# Altium integrated library Wurth_Elektronik_Passive_rev16a.IntLib: 1143 symbols (part 1 of 28)
Pins are listed as number, name and electrical type; pins without a type are passive.

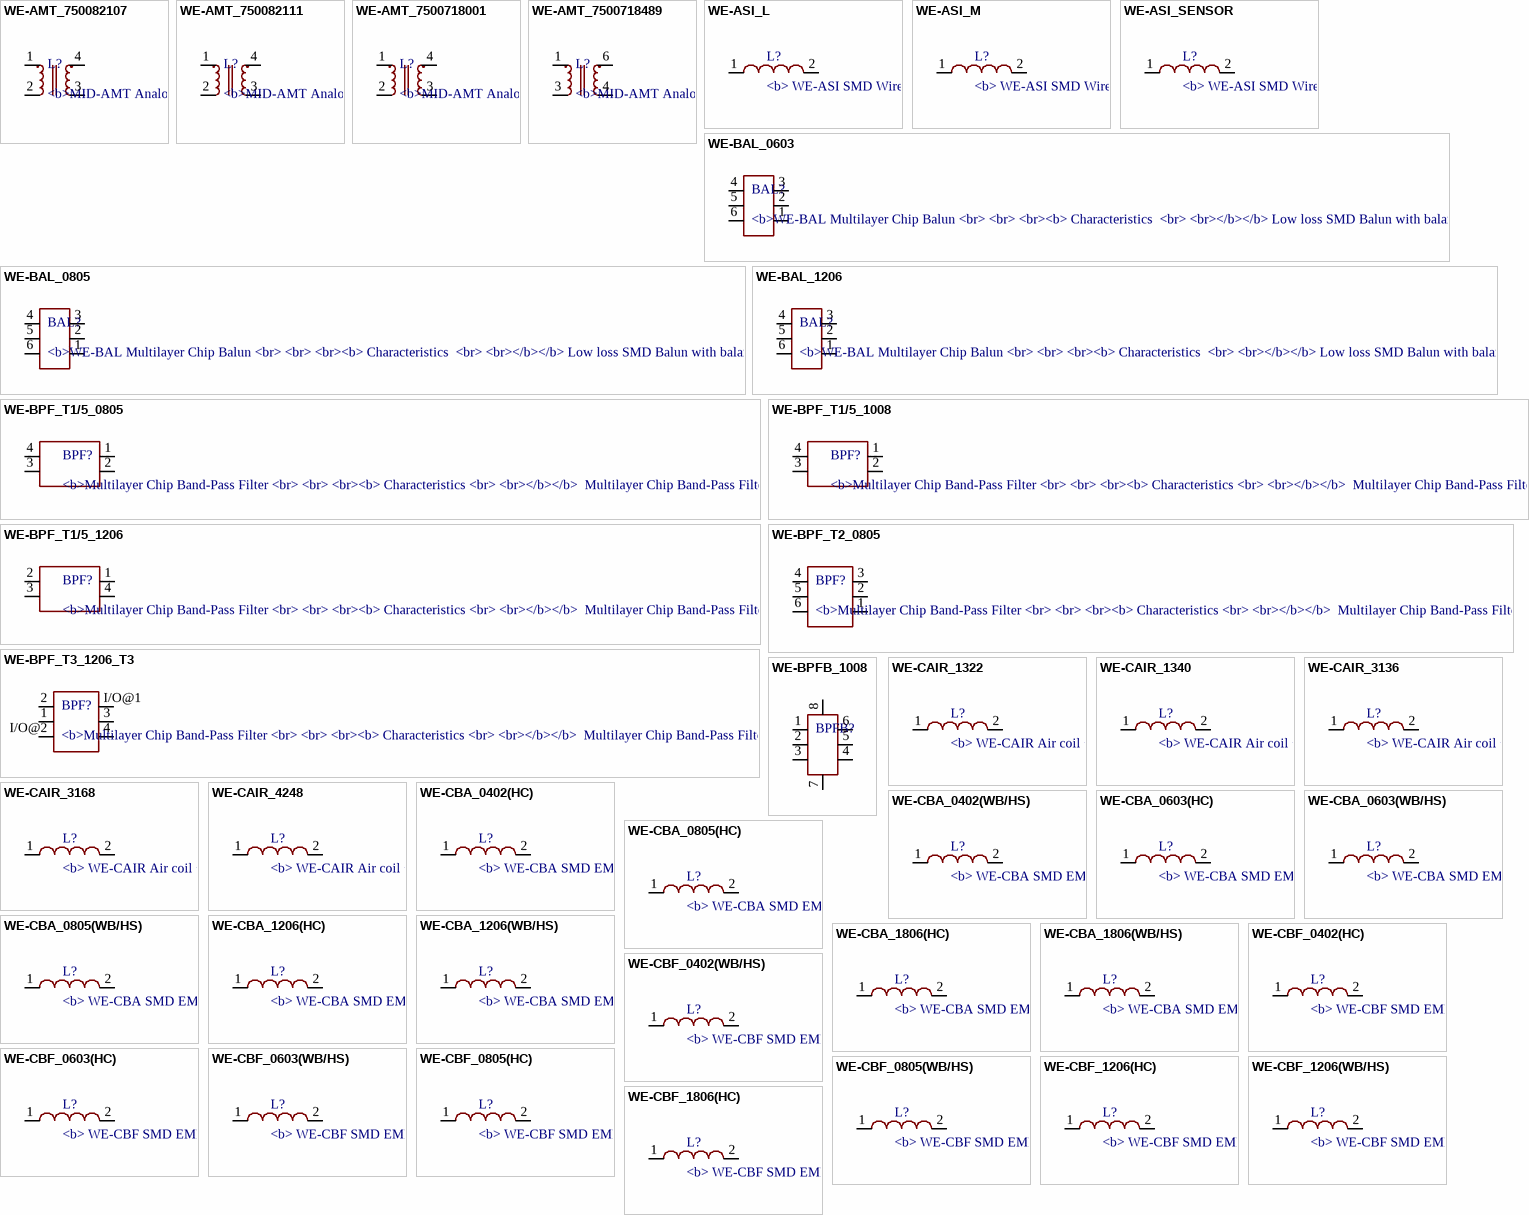
[diagram p0: symbols WE-AMT_750082107 to WE-CBF_1806(HC)]

## WE-AMT_750082107
designator L?, comment <b>MID-AMT Analog Modem Transformer</b><p> / <br><b> Characteristics / <br></b> UL/IEC/EN 60950 compatible / <br> V.29-UL1950 / <br> / <br><b> Applications / <br></b> Analog Modems / <br> / <br> / <br><a href="http://katalog.we-online.de/media/images/ctm/mid-amt_pf2.jpg" title="Enlarge picture"> / <img src="http://katalog.we-online.de/media/thumbs2/ctm/thb_mid-amt_pf2.jpg" width="320"></a><p> / Details see: <a href="http://katalog.we-online.de/en/ctm/MID-AMT/?m">http://katalog.we-online.de/en/ctm/MID-AMT/?m</a><p> / Updated on 2014-06-19<br> / 2014 (C) Wurth Elektronik
footprint WE-AMT_750082107
pins: 1, 2 4, 3, 4 2

## WE-AMT_750082111
designator L?, comment <b>MID-AMT Analog Modem Transformer</b><p> / <br><b> Characteristics / <br></b> UL/IEC/EN 60950 compatible / <br> V.29-UL1950 / <br> / <br><b> Applications / <br></b> Analog Modems / <br> / <br> / <br><a href="http://katalog.we-online.de/media/images/ctm/mid-amt_pf2.jpg" title="Enlarge picture"> / <img src="http://katalog.we-online.de/media/thumbs2/ctm/thb_mid-amt_pf2.jpg" width="320"></a><p> / Details see: <a href="http://katalog.we-online.de/en/ctm/MID-AMT/?m">http://katalog.we-online.de/en/ctm/MID-AMT/?m</a><p> / Updated on 2014-06-19<br> / 2014 (C) Wurth Elektronik
footprint WE-AMT_750082111
pins: 1, 2 4, 3, 4 2

## WE-AMT_7500718001
designator L?, comment <b>MID-AMT Analog Modem Transformer</b><p> / <br><b> Characteristics / <br></b> UL/IEC/EN 60950 compatible / <br> V.29-UL1950 / <br> / <br><b> Applications / <br></b> Analog Modems / <br> / <br> / <br><a href="http://katalog.we-online.de/media/images/ctm/mid-amt_pf2.jpg" title="Enlarge picture"> / <img src="http://katalog.we-online.de/media/thumbs2/ctm/thb_mid-amt_pf2.jpg" width="320"></a><p> / Details see: <a href="http://katalog.we-online.de/en/ctm/MID-AMT/?m">http://katalog.we-online.de/en/ctm/MID-AMT/?m</a><p> / Updated on 2014-06-19<br> / 2014 (C) Wurth Elektronik
footprint WE-AMT_7500718001
pins: 1, 2 4, 3, 4 2

## WE-AMT_7500718489
designator L?, comment <b>MID-AMT Analog Modem Transformer</b><p> / <br><b> Characteristics / <br></b> UL/IEC/EN 60950 compatible / <br> V.29-UL1950 / <br> / <br><b> Applications / <br></b> Analog Modems / <br> / <br> / <br><a href="http://katalog.we-online.de/media/images/ctm/mid-amt_pf2.jpg" title="Enlarge picture"> / <img src="http://katalog.we-online.de/media/thumbs2/ctm/thb_mid-amt_pf2.jpg" width="320"></a><p> / Details see: <a href="http://katalog.we-online.de/en/ctm/MID-AMT/?m">http://katalog.we-online.de/en/ctm/MID-AMT/?m</a><p> / Updated on 2014-06-19<br> / 2014 (C) Wurth Elektronik
footprint WE-AMT_7500718489
pins: 1, 3 4, 4 3, 6 2

## WE-ASI_L
designator L?, comment <b> WE-ASI SMD Wire Wound Inductor / <br> / <br><b> Characteristics / <br> / <br></b></b> Specially designed for sensors and actuators / <br> High current and small footprint / <br> High self resonant frequency / <br> Operating temperature: –40 ºC to +125 ºC / <br> / <br> / <br><b> Applications / <br> / <br></b> ASI-applications / <br>Low frequency filter design (kHz range) / <br> / <br> / <br><a href="http://katalog.we-online.de/media/images/eisos/IndASI_pf2.jpg" title="Enlarge picture"> / <img src="http://katalog.we-online.de/media/thumbs2/eisos/thb_IndASI_pf2.jpg" width="320"></a><p> / Details see: <a href="http://katalog.we-online.de/en/pbs/WE-ASI">http://katalog.we-online.de/en/pbs/WE-ASI</a><p> / Updated by  Dan Xu 2014-06-19<br> / 2014 (C) Wurth Elektronik
footprint WE-ASI_L
pins: 1, 2

## WE-ASI_M
designator L?, comment <b> WE-ASI SMD Wire Wound Inductor / <br> / <br><b> Characteristics / <br> / <br></b></b> Specially designed for sensors and actuators / <br> High current and small footprint / <br> High self resonant frequency / <br> Operating temperature: –40 ºC to +125 ºC / <br> / <br> / <br><b> Applications / <br> / <br></b> ASI-applications / <br>Low frequency filter design (kHz range) / <br> / <br> / <br><a href="http://katalog.we-online.de/media/images/eisos/IndASI_pf2.jpg" title="Enlarge picture"> / <img src="http://katalog.we-online.de/media/thumbs2/eisos/thb_IndASI_pf2.jpg" width="320"></a><p> / Details see: <a href="http://katalog.we-online.de/en/pbs/WE-ASI">http://katalog.we-online.de/en/pbs/WE-ASI</a><p> / Updated by  Dan Xu 2014-06-19<br> / 2014 (C) Wurth Elektronik
footprint WE-ASI_M
pins: 1, 2

## WE-ASI_SENSOR
designator L?, comment <b> WE-ASI SMD Wire Wound Inductor / <br> / <br><b> Characteristics / <br> / <br></b></b> Specially designed for sensors and actuators / <br> High current and small footprint / <br> High self resonant frequency / <br> Operating temperature: –40 ºC to +125 ºC / <br> / <br> / <br><b> Applications / <br> / <br></b> ASI-applications / <br>Low frequency filter design (kHz range) / <br> / <br> / <br><a href="http://katalog.we-online.de/media/images/eisos/IndASI_pf2.jpg" title="Enlarge picture"> / <img src="http://katalog.we-online.de/media/thumbs2/eisos/thb_IndASI_pf2.jpg" width="320"></a><p> / Details see: <a href="http://katalog.we-online.de/en/pbs/WE-ASI">http://katalog.we-online.de/en/pbs/WE-ASI</a><p> / Updated by  Dan Xu 2014-06-19<br> / 2014 (C) Wurth Elektronik
footprint WE-ASI_SENSOR
pins: 1, 2

## WE-BAL_0603
designator BAL?, comment <b>WE-BAL Multilayer Chip Balun / <br> / <br> / <br><b> Characteristics / <br> / <br></b></b> Low loss SMD Balun with balanced impedance of 50 to 200 Ω / <br> Operating temperature: –40 °C to +85 °C / <br> Power Capacity: 2 W max. / <br> / <br> / <br><b> Applications / <br></b> RF applications / <br> Wireless communication systems like Home RF, DECT, WLAN, Bluetooth, ZigBee … / <br> / <br> / <br> / <br><a href="http://katalog.we-online.de/media/images/eisos/RfBAL_pf2.jpg" title="Enlarge picture"> / <img src="http://katalog.we-online.de/media/thumbs2/eisos/thb_RfBAL_pf2.jpg" width="320"></a><p> / Details see: <a href="http://katalog.we-online.de/en/pbs/WE-BAL">http://katalog.we-online.de/en/pbs/WE-BAL</a><p> / Updated by  Dan Xu 2014-06-19<br> / 2014 (C) Wurth Elektronik
footprint WE-BAL_0603
pins: 1, 2, 3, 4, 5, 6

## WE-BAL_0805
designator BAL?, comment <b>WE-BAL Multilayer Chip Balun / <br> / <br> / <br><b> Characteristics / <br> / <br></b></b> Low loss SMD Balun with balanced impedance of 50 to 200 Ω / <br> Operating temperature: –40 °C to +85 °C / <br> Power Capacity: 2 W max. / <br> / <br> / <br><b> Applications / <br></b> RF applications / <br> Wireless communication systems like Home RF, DECT, WLAN, Bluetooth, ZigBee … / <br> / <br> / <br> / <br><a href="http://katalog.we-online.de/media/images/eisos/RfBAL_pf2.jpg" title="Enlarge picture"> / <img src="http://katalog.we-online.de/media/thumbs2/eisos/thb_RfBAL_pf2.jpg" width="320"></a><p> / Details see: <a href="http://katalog.we-online.de/en/pbs/WE-BAL">http://katalog.we-online.de/en/pbs/WE-BAL</a><p> / Updated by  Dan Xu 2014-06-19<br> / 2014 (C) Wurth Elektronik
footprint WE-BAL_0805
pins: 1, 2, 3, 4, 5, 6

## WE-BAL_1206
designator BAL?, comment <b>WE-BAL Multilayer Chip Balun / <br> / <br> / <br><b> Characteristics / <br> / <br></b></b> Low loss SMD Balun with balanced impedance of 50 to 200 Ω / <br> Operating temperature: –40 °C to +85 °C / <br> Power Capacity: 2 W max. / <br> / <br> / <br><b> Applications / <br></b> RF applications / <br> Wireless communication systems like Home RF, DECT, WLAN, Bluetooth, ZigBee … / <br> / <br> / <br> / <br><a href="http://katalog.we-online.de/media/images/eisos/RfBAL_pf2.jpg" title="Enlarge picture"> / <img src="http://katalog.we-online.de/media/thumbs2/eisos/thb_RfBAL_pf2.jpg" width="320"></a><p> / Details see: <a href="http://katalog.we-online.de/en/pbs/WE-BAL">http://katalog.we-online.de/en/pbs/WE-BAL</a><p> / Updated by  Dan Xu 2014-06-19<br> / 2014 (C) Wurth Elektronik
footprint WE-BAL_1206
pins: 1, 2, 3, 4, 5, 6

## WE-BPF_T1/5_0805
designator BPF?, comment <b>Multilayer Chip Band-Pass Filter / <br> / <br> / <br><b> Characteristics / <br> / <br></b></b>  Multilayer Chip Band-Pass Filter with low insertion loss and high attenuation / <br> / <br> SMD component in the sizes 0805 and 1008 / <br> / <br> Guaranteed filter characteristics over a wide temperature range / <br> / <br> / <br><b> Applications / <br> / <br></b> RF applications / <br> / <br> Wireless communication systems like DECT, PACS, PHS, GSM, WLAN, Bluetooth … / <br><a href="http://katalog.we-online.de/media/images/eisos/RfBPF_pf2.jpg" title="Enlarge picture"> / <img src="http://katalog.we-online.de/media/thumbs2/eisos/thb_RfBPF_pf2.jpg" width="320"></a><p> / Details see: <a href="http://katalog.we-online.de/en/pbs/WE-BPF">http://katalog.we-online.de/en/pbs/WE-BPF</a><p> / Updated by  Dan Xu 2014-06-19<br> / 2014 (C) Wurth Elektronik
footprint WE-BPF_0805_T1
pins: 1 GND, 2 OUT, 3 GND, 4 IN

## WE-BPF_T1/5_1008
designator BPF?, comment <b>Multilayer Chip Band-Pass Filter / <br> / <br> / <br><b> Characteristics / <br> / <br></b></b>  Multilayer Chip Band-Pass Filter with low insertion loss and high attenuation / <br> / <br> SMD component in the sizes 0805 and 1008 / <br> / <br> Guaranteed filter characteristics over a wide temperature range / <br> / <br> / <br><b> Applications / <br> / <br></b> RF applications / <br> / <br> Wireless communication systems like DECT, PACS, PHS, GSM, WLAN, Bluetooth … / <br><a href="http://katalog.we-online.de/media/images/eisos/RfBPF_pf2.jpg" title="Enlarge picture"> / <img src="http://katalog.we-online.de/media/thumbs2/eisos/thb_RfBPF_pf2.jpg" width="320"></a><p> / Details see: <a href="http://katalog.we-online.de/en/pbs/WE-BPF">http://katalog.we-online.de/en/pbs/WE-BPF</a><p> / Updated by  Dan Xu 2014-06-19<br> / 2014 (C) Wurth Elektronik
footprint WE-BPF_1008_T5
pins: 1 GND, 2 OUT, 3 GND, 4 IN

## WE-BPF_T1/5_1206
designator BPF?, comment <b>Multilayer Chip Band-Pass Filter / <br> / <br> / <br><b> Characteristics / <br> / <br></b></b>  Multilayer Chip Band-Pass Filter with low insertion loss and high attenuation / <br> / <br> SMD component in the sizes 0805 and 1008 / <br> / <br> Guaranteed filter characteristics over a wide temperature range / <br> / <br> / <br><b> Applications / <br> / <br></b> RF applications / <br> / <br> Wireless communication systems like DECT, PACS, PHS, GSM, WLAN, Bluetooth … / <br><a href="http://katalog.we-online.de/media/images/eisos/RfBPF_pf2.jpg" title="Enlarge picture"> / <img src="http://katalog.we-online.de/media/thumbs2/eisos/thb_RfBPF_pf2.jpg" width="320"></a><p> / Details see: <a href="http://katalog.we-online.de/en/pbs/WE-BPF">http://katalog.we-online.de/en/pbs/WE-BPF</a><p> / Updated by  Dan Xu 2014-06-19<br> / 2014 (C) Wurth Elektronik
footprint WE-BPF_1206_T1
pins: 1 GND, 2 IN, 3 GND, 4 OUT

## WE-BPF_T2_0805
designator BPF?, comment <b>Multilayer Chip Band-Pass Filter / <br> / <br> / <br><b> Characteristics / <br> / <br></b></b>  Multilayer Chip Band-Pass Filter with low insertion loss and high attenuation / <br> / <br> SMD component in the sizes 0805 and 1008 / <br> / <br> Guaranteed filter characteristics over a wide temperature range / <br> / <br> / <br><b> Applications / <br> / <br></b> RF applications / <br> / <br> Wireless communication systems like DECT, PACS, PHS, GSM, WLAN, Bluetooth … / <br><a href="http://katalog.we-online.de/media/images/eisos/RfBPF_pf2.jpg" title="Enlarge picture"> / <img src="http://katalog.we-online.de/media/thumbs2/eisos/thb_RfBPF_pf2.jpg" width="320"></a><p> / Details see: <a href="http://katalog.we-online.de/en/pbs/WE-BPF">http://katalog.we-online.de/en/pbs/WE-BPF</a><p> / Updated by  Dan Xu 2014-06-19<br> / 2014 (C) Wurth Elektronik
footprint WE-BPF_0805_T2
pins: 1 GND, 2 GND, 3 I/O, 4 GND, 5 GND, 6 I/O

## WE-BPF_T3_1206_T3
designator BPF?, comment <b>Multilayer Chip Band-Pass Filter / <br> / <br> / <br><b> Characteristics / <br> / <br></b></b>  Multilayer Chip Band-Pass Filter with low insertion loss and high attenuation / <br> / <br> SMD component in the sizes 0805 and 1008 / <br> / <br> Guaranteed filter characteristics over a wide temperature range / <br> / <br> / <br><b> Applications / <br> / <br></b> RF applications / <br> / <br> Wireless communication systems like DECT, PACS, PHS, GSM, WLAN, Bluetooth … / <br><a href="http://katalog.we-online.de/media/images/eisos/RfBPF_pf2.jpg" title="Enlarge picture"> / <img src="http://katalog.we-online.de/media/thumbs2/eisos/thb_RfBPF_pf2.jpg" width="320"></a><p> / Details see: <a href="http://katalog.we-online.de/en/pbs/WE-BPF">http://katalog.we-online.de/en/pbs/WE-BPF</a><p> / Updated by  Dan Xu 2014-06-19<br> / 2014 (C) Wurth Elektronik
footprint WE-BPF_1206_T3
pins: 1 GND, 2 GND, 3 GND, 4 GND, I/O@1 I/O, I/O@2 I/O

## WE-BPFB_1008
designator BPFB?
footprint WE-BPFB_1008
pins: 1 NC, 2 UNBAL.P, 3 NC/DC, 4 BAL.P, 5 NC, 6 BAL.P, 7 GND, 8 GND

## WE-CAIR_1322
designator L?, comment <b> WE-CAIR Air coil / <br> / <br> / <br><b> Characteristics / <br></b></b> Inductance values from 1.65nH up to 120 nH / <br> Very high quality factor >100 / <br> High self-resonant frequency / <br> High currents up to 3.5 A / <br> 5%(10%) Inductance tolerance / <br> Pick and place process possible / <br> Good solderability (Tinned connector pins) / <br> Operating temperature: –40 °C to +125 °C / <br> / <br><b> Applications / <br></b> Especially for RF application / <br> Ideal for high current applications / <br> Broad band filter / <br> RF-Decoupling / <br> / <br><a href="http://katalog.we-online.de/media/images/eisos/RfCAIR_pf2.jpg" title="Enlarge picture"> / <img src="http://katalog.we-online.de/media/thumbs2/eisos/thb_RfCAIR_pf2.jpg" width="320"></a><p> / Details see: <a href="http://katalog.we-online.de/en/pbs/WE-CAIR">http://katalog.we-online.de/en/pbs/WE-CAIR</a><p> / Created on 2014-05-19<br> / 2014 (C) Wurth Elektronik
footprint WE-CAIR_1322
pins: 1, 2

## WE-CAIR_1340
designator L?, comment <b> WE-CAIR Air coil / <br> / <br> / <br><b> Characteristics / <br></b></b> Inductance values from 1.65nH up to 120 nH / <br> Very high quality factor >100 / <br> High self-resonant frequency / <br> High currents up to 3.5 A / <br> 5%(10%) Inductance tolerance / <br> Pick and place process possible / <br> Good solderability (Tinned connector pins) / <br> Operating temperature: –40 °C to +125 °C / <br> / <br><b> Applications / <br></b> Especially for RF application / <br> Ideal for high current applications / <br> Broad band filter / <br> RF-Decoupling / <br> / <br><a href="http://katalog.we-online.de/media/images/eisos/RfCAIR_pf2.jpg" title="Enlarge picture"> / <img src="http://katalog.we-online.de/media/thumbs2/eisos/thb_RfCAIR_pf2.jpg" width="320"></a><p> / Details see: <a href="http://katalog.we-online.de/en/pbs/WE-CAIR">http://katalog.we-online.de/en/pbs/WE-CAIR</a><p> / Created on 2014-05-19<br> / 2014 (C) Wurth Elektronik
footprint WE-CAIR_1340
pins: 1, 2

## WE-CAIR_3136
designator L?, comment <b> WE-CAIR Air coil / <br> / <br> / <br><b> Characteristics / <br></b></b> Inductance values from 1.65nH up to 120 nH / <br> Very high quality factor >100 / <br> High self-resonant frequency / <br> High currents up to 3.5 A / <br> 5%(10%) Inductance tolerance / <br> Pick and place process possible / <br> Good solderability (Tinned connector pins) / <br> Operating temperature: –40 °C to +125 °C / <br> / <br><b> Applications / <br></b> Especially for RF application / <br> Ideal for high current applications / <br> Broad band filter / <br> RF-Decoupling / <br> / <br><a href="http://katalog.we-online.de/media/images/eisos/RfCAIR_pf2.jpg" title="Enlarge picture"> / <img src="http://katalog.we-online.de/media/thumbs2/eisos/thb_RfCAIR_pf2.jpg" width="320"></a><p> / Details see: <a href="http://katalog.we-online.de/en/pbs/WE-CAIR">http://katalog.we-online.de/en/pbs/WE-CAIR</a><p> / Created on 2014-05-19<br> / 2014 (C) Wurth Elektronik
footprint WE-CAIR_3136
pins: 1, 2

## WE-CAIR_3168
designator L?, comment <b> WE-CAIR Air coil / <br> / <br> / <br><b> Characteristics / <br></b></b> Inductance values from 1.65nH up to 120 nH / <br> Very high quality factor >100 / <br> High self-resonant frequency / <br> High currents up to 3.5 A / <br> 5%(10%) Inductance tolerance / <br> Pick and place process possible / <br> Good solderability (Tinned connector pins) / <br> Operating temperature: –40 °C to +125 °C / <br> / <br><b> Applications / <br></b> Especially for RF application / <br> Ideal for high current applications / <br> Broad band filter / <br> RF-Decoupling / <br> / <br><a href="http://katalog.we-online.de/media/images/eisos/RfCAIR_pf2.jpg" title="Enlarge picture"> / <img src="http://katalog.we-online.de/media/thumbs2/eisos/thb_RfCAIR_pf2.jpg" width="320"></a><p> / Details see: <a href="http://katalog.we-online.de/en/pbs/WE-CAIR">http://katalog.we-online.de/en/pbs/WE-CAIR</a><p> / Created on 2014-05-19<br> / 2014 (C) Wurth Elektronik
footprint WE-CAIR_3168
pins: 1, 2

## WE-CAIR_4248
designator L?, comment <b> WE-CAIR Air coil / <br> / <br> / <br><b> Characteristics / <br></b></b> Inductance values from 1.65nH up to 120 nH / <br> Very high quality factor >100 / <br> High self-resonant frequency / <br> High currents up to 3.5 A / <br> 5%(10%) Inductance tolerance / <br> Pick and place process possible / <br> Good solderability (Tinned connector pins) / <br> Operating temperature: –40 °C to +125 °C / <br> / <br><b> Applications / <br></b> Especially for RF application / <br> Ideal for high current applications / <br> Broad band filter / <br> RF-Decoupling / <br> / <br><a href="http://katalog.we-online.de/media/images/eisos/RfCAIR_pf2.jpg" title="Enlarge picture"> / <img src="http://katalog.we-online.de/media/thumbs2/eisos/thb_RfCAIR_pf2.jpg" width="320"></a><p> / Details see: <a href="http://katalog.we-online.de/en/pbs/WE-CAIR">http://katalog.we-online.de/en/pbs/WE-CAIR</a><p> / Created on 2014-05-19<br> / 2014 (C) Wurth Elektronik
footprint WE-CAIR_4248
pins: 1, 2

## WE-CBA_0402(HC)
designator L?, comment <b> WE-CBA SMD EMI Suppression Ferrite Bead / <br></B> / <br><b>Characteristics / </b><br>Reliable Ni-Sn electrodes / <br>High rated current up to 5A / <br>Recommended soldering: Reflow / <br>Operating temperature: -55°C to +125°C / <br> / <br><b>Applications<br> / <br> / </b>* Perfect as data line filter and for uncoupling of distribution voltage / <BR> / <br>*This special SMD chip bead ferrites can be put directly on the printed circuit board. They offer excellent anti-EMI properties and low DC-resistance. Placed very close next to the interference source even with smallest size 0402,maximal impedance at 1000 Ω can be reached.<BR> / <br>*High Speed:<BR>"High Speed " SMD ferrites WE-CBF have lower impedance in the lower frequency ranges thus they have only a low attenuation for fast signals. Application e.g. USB 2.0, IEEE 1394,LVDS <BR> / <br>*Wide Band:<BR> "Wide Band" SMD ferrites WE-CBF already show high impedance in low frequency range. Therefore they are wide band through the whole spectrum. Application e.g. control signats, RS232, RS422, DC/DC converter <BR> / <br>*High Current:<BR>"High Current " SMD ferrites WE-CBF are designed for high current (over 1 A). The rated current refers to 40K self-heating. High current SMD ferrites are available in all there types (High Speed, Wide Band and High Frequency). Application e.g. power supply, DC/DC converter<BR> / <br>*Advice:<BR>Pay attention for the use of SMD-Ferrites for high current>1A and ambient temperature over +85°C that the rated current has to be reduced when temperature is above +85°C (Derating).<BR> / <br>*At+100°C environment temperature the maximal rated current has to add up to only 60% of the data sheet value ,without an overload of the component.<BR> / <br> / <b>Variant abbreviation</b><br> / WB means WIDE BAND<br> / HS means HIGH SPEED<br> / HC means HIGH CURRENT<br> / <br><a href="http://katalog.we-online.de/media/images/eisos/FeCBA_pf2.jpg" title="Enlarge picture"> / <img src="http://katalog.we-online.de/media/thumbs2/eisos/thb_FeCBA_pf2.jpg" width="320"></a><p> / Details see: <a href="http://katalog.we-online.de/en/pbs/WE-CBA/">http://katalog.we-online.de/en/pbs/WE-CBA/ / </a><p>Created: 2015-02-02 / <br>2015 (C) Wurth Elektronik
footprint WE-CBA_0402(W=2.2)
pins: 1, 2

## WE-CBA_0402(WB/HS)
designator L?, comment <b> WE-CBA SMD EMI Suppression Ferrite Bead / <br></B> / <br><b>Characteristics / </b><br>Reliable Ni-Sn electrodes / <br>High rated current up to 5A / <br>Recommended soldering: Reflow / <br>Operating temperature: -55°C to +125°C / <br> / <br><b>Applications<br> / <br> / </b>* Perfect as data line filter and for uncoupling of distribution voltage / <BR> / <br>*This special SMD chip bead ferrites can be put directly on the printed circuit board. They offer excellent anti-EMI properties and low DC-resistance. Placed very close next to the interference source even with smallest size 0402,maximal impedance at 1000 Ω can be reached.<BR> / <br>*High Speed:<BR>"High Speed " SMD ferrites WE-CBF have lower impedance in the lower frequency ranges thus they have only a low attenuation for fast signals. Application e.g. USB 2.0, IEEE 1394,LVDS <BR> / <br>*Wide Band:<BR> "Wide Band" SMD ferrites WE-CBF already show high impedance in low frequency range. Therefore they are wide band through the whole spectrum. Application e.g. control signats, RS232, RS422, DC/DC converter <BR> / <br>*High Current:<BR>"High Current " SMD ferrites WE-CBF are designed for high current (over 1 A). The rated current refers to 40K self-heating. High current SMD ferrites are available in all there types (High Speed, Wide Band and High Frequency). Application e.g. power supply, DC/DC converter<BR> / <br>*Advice:<BR>Pay attention for the use of SMD-Ferrites for high current>1A and ambient temperature over +85°C that the rated current has to be reduced when temperature is above +85°C (Derating).<BR> / <br>*At+100°C environment temperature the maximal rated current has to add up to only 60% of the data sheet value ,without an overload of the component.<BR> / <br> / <b>Variant abbreviation</b><br> / WB means WIDE BAND<br> / HS means HIGH SPEED<br> / HC means HIGH CURRENT<br> / <br><a href="http://katalog.we-online.de/media/images/eisos/FeCBA_pf2.jpg" title="Enlarge picture"> / <img src="http://katalog.we-online.de/media/thumbs2/eisos/thb_FeCBA_pf2.jpg" width="320"></a><p> / Details see: <a href="http://katalog.we-online.de/en/pbs/WE-CBA/">http://katalog.we-online.de/en/pbs/WE-CBA/ / </a><p>Created: 2015-02-02 / <br>2015 (C) Wurth Elektronik
footprint WE-CBA_0402(W=1.5)
pins: 1, 2

## WE-CBA_0603(HC)
designator L?, comment <b> WE-CBA SMD EMI Suppression Ferrite Bead / <br></B> / <br><b>Characteristics / </b><br>Reliable Ni-Sn electrodes / <br>High rated current up to 5A / <br>Recommended soldering: Reflow / <br>Operating temperature: -55°C to +125°C / <br> / <br><b>Applications<br> / <br> / </b>* Perfect as data line filter and for uncoupling of distribution voltage / <BR> / <br>*This special SMD chip bead ferrites can be put directly on the printed circuit board. They offer excellent anti-EMI properties and low DC-resistance. Placed very close next to the interference source even with smallest size 0402,maximal impedance at 1000 Ω can be reached.<BR> / <br>*High Speed:<BR>"High Speed " SMD ferrites WE-CBF have lower impedance in the lower frequency ranges thus they have only a low attenuation for fast signals. Application e.g. USB 2.0, IEEE 1394,LVDS <BR> / <br>*Wide Band:<BR> "Wide Band" SMD ferrites WE-CBF already show high impedance in low frequency range. Therefore they are wide band through the whole spectrum. Application e.g. control signats, RS232, RS422, DC/DC converter <BR> / <br>*High Current:<BR>"High Current " SMD ferrites WE-CBF are designed for high current (over 1 A). The rated current refers to 40K self-heating. High current SMD ferrites are available in all there types (High Speed, Wide Band and High Frequency). Application e.g. power supply, DC/DC converter<BR> / <br>*Advice:<BR>Pay attention for the use of SMD-Ferrites for high current>1A and ambient temperature over +85°C that the rated current has to be reduced when temperature is above +85°C (Derating).<BR> / <br>*At+100°C environment temperature the maximal rated current has to add up to only 60% of the data sheet value ,without an overload of the component.<BR> / <br> / <b>Variant abbreviation</b><br> / WB means WIDE BAND<br> / HS means HIGH SPEED<br> / HC means HIGH CURRENT<br> / <br><a href="http://katalog.we-online.de/media/images/eisos/FeCBA_pf2.jpg" title="Enlarge picture"> / <img src="http://katalog.we-online.de/media/thumbs2/eisos/thb_FeCBA_pf2.jpg" width="320"></a><p> / Details see: <a href="http://katalog.we-online.de/en/pbs/WE-CBA/">http://katalog.we-online.de/en/pbs/WE-CBA/ / </a><p>Created: 2015-02-02 / <br>2015 (C) Wurth Elektronik
footprint WE-CBA_0603(W=2.6)
pins: 1, 2

## WE-CBA_0603(WB/HS)
designator L?, comment <b> WE-CBA SMD EMI Suppression Ferrite Bead / <br></B> / <br><b>Characteristics / </b><br>Reliable Ni-Sn electrodes / <br>High rated current up to 5A / <br>Recommended soldering: Reflow / <br>Operating temperature: -55°C to +125°C / <br> / <br><b>Applications<br> / <br> / </b>* Perfect as data line filter and for uncoupling of distribution voltage / <BR> / <br>*This special SMD chip bead ferrites can be put directly on the printed circuit board. They offer excellent anti-EMI properties and low DC-resistance. Placed very close next to the interference source even with smallest size 0402,maximal impedance at 1000 Ω can be reached.<BR> / <br>*High Speed:<BR>"High Speed " SMD ferrites WE-CBF have lower impedance in the lower frequency ranges thus they have only a low attenuation for fast signals. Application e.g. USB 2.0, IEEE 1394,LVDS <BR> / <br>*Wide Band:<BR> "Wide Band" SMD ferrites WE-CBF already show high impedance in low frequency range. Therefore they are wide band through the whole spectrum. Application e.g. control signats, RS232, RS422, DC/DC converter <BR> / <br>*High Current:<BR>"High Current " SMD ferrites WE-CBF are designed for high current (over 1 A). The rated current refers to 40K self-heating. High current SMD ferrites are available in all there types (High Speed, Wide Band and High Frequency). Application e.g. power supply, DC/DC converter<BR> / <br>*Advice:<BR>Pay attention for the use of SMD-Ferrites for high current>1A and ambient temperature over +85°C that the rated current has to be reduced when temperature is above +85°C (Derating).<BR> / <br>*At+100°C environment temperature the maximal rated current has to add up to only 60% of the data sheet value ,without an overload of the component.<BR> / <br> / <b>Variant abbreviation</b><br> / WB means WIDE BAND<br> / HS means HIGH SPEED<br> / HC means HIGH CURRENT<br> / <br><a href="http://katalog.we-online.de/media/images/eisos/FeCBA_pf2.jpg" title="Enlarge picture"> / <img src="http://katalog.we-online.de/media/thumbs2/eisos/thb_FeCBA_pf2.jpg" width="320"></a><p> / Details see: <a href="http://katalog.we-online.de/en/pbs/WE-CBA/">http://katalog.we-online.de/en/pbs/WE-CBA/ / </a><p>Created: 2015-02-02 / <br>2015 (C) Wurth Elektronik
footprint WE-CBA_0603(W=2.2)
pins: 1, 2

## WE-CBA_0805(HC)
designator L?, comment <b> WE-CBA SMD EMI Suppression Ferrite Bead / <br></B> / <br><b>Characteristics / </b><br>Reliable Ni-Sn electrodes / <br>High rated current up to 5A / <br>Recommended soldering: Reflow / <br>Operating temperature: -55°C to +125°C / <br> / <br><b>Applications<br> / <br> / </b>* Perfect as data line filter and for uncoupling of distribution voltage / <BR> / <br>*This special SMD chip bead ferrites can be put directly on the printed circuit board. They offer excellent anti-EMI properties and low DC-resistance. Placed very close next to the interference source even with smallest size 0402,maximal impedance at 1000 Ω can be reached.<BR> / <br>*High Speed:<BR>"High Speed " SMD ferrites WE-CBF have lower impedance in the lower frequency ranges thus they have only a low attenuation for fast signals. Application e.g. USB 2.0, IEEE 1394,LVDS <BR> / <br>*Wide Band:<BR> "Wide Band" SMD ferrites WE-CBF already show high impedance in low frequency range. Therefore they are wide band through the whole spectrum. Application e.g. control signats, RS232, RS422, DC/DC converter <BR> / <br>*High Current:<BR>"High Current " SMD ferrites WE-CBF are designed for high current (over 1 A). The rated current refers to 40K self-heating. High current SMD ferrites are available in all there types (High Speed, Wide Band and High Frequency). Application e.g. power supply, DC/DC converter<BR> / <br>*Advice:<BR>Pay attention for the use of SMD-Ferrites for high current>1A and ambient temperature over +85°C that the rated current has to be reduced when temperature is above +85°C (Derating).<BR> / <br>*At+100°C environment temperature the maximal rated current has to add up to only 60% of the data sheet value ,without an overload of the component.<BR> / <br> / <b>Variant abbreviation</b><br> / WB means WIDE BAND<br> / HS means HIGH SPEED<br> / HC means HIGH CURRENT<br> / <br><a href="http://katalog.we-online.de/media/images/eisos/FeCBA_pf2.jpg" title="Enlarge picture"> / <img src="http://katalog.we-online.de/media/thumbs2/eisos/thb_FeCBA_pf2.jpg" width="320"></a><p> / Details see: <a href="http://katalog.we-online.de/en/pbs/WE-CBA/">http://katalog.we-online.de/en/pbs/WE-CBA/ / </a><p>Created: 2015-02-02 / <br>2015 (C) Wurth Elektronik
footprint WE-CBA_0805(W=4)
pins: 1, 2

## WE-CBA_0805(WB/HS)
designator L?, comment <b> WE-CBA SMD EMI Suppression Ferrite Bead / <br></B> / <br><b>Characteristics / </b><br>Reliable Ni-Sn electrodes / <br>High rated current up to 5A / <br>Recommended soldering: Reflow / <br>Operating temperature: -55°C to +125°C / <br> / <br><b>Applications<br> / <br> / </b>* Perfect as data line filter and for uncoupling of distribution voltage / <BR> / <br>*This special SMD chip bead ferrites can be put directly on the printed circuit board. They offer excellent anti-EMI properties and low DC-resistance. Placed very close next to the interference source even with smallest size 0402,maximal impedance at 1000 Ω can be reached.<BR> / <br>*High Speed:<BR>"High Speed " SMD ferrites WE-CBF have lower impedance in the lower frequency ranges thus they have only a low attenuation for fast signals. Application e.g. USB 2.0, IEEE 1394,LVDS <BR> / <br>*Wide Band:<BR> "Wide Band" SMD ferrites WE-CBF already show high impedance in low frequency range. Therefore they are wide band through the whole spectrum. Application e.g. control signats, RS232, RS422, DC/DC converter <BR> / <br>*High Current:<BR>"High Current " SMD ferrites WE-CBF are designed for high current (over 1 A). The rated current refers to 40K self-heating. High current SMD ferrites are available in all there types (High Speed, Wide Band and High Frequency). Application e.g. power supply, DC/DC converter<BR> / <br>*Advice:<BR>Pay attention for the use of SMD-Ferrites for high current>1A and ambient temperature over +85°C that the rated current has to be reduced when temperature is above +85°C (Derating).<BR> / <br>*At+100°C environment temperature the maximal rated current has to add up to only 60% of the data sheet value ,without an overload of the component.<BR> / <br> / <b>Variant abbreviation</b><br> / WB means WIDE BAND<br> / HS means HIGH SPEED<br> / HC means HIGH CURRENT<br> / <br><a href="http://katalog.we-online.de/media/images/eisos/FeCBA_pf2.jpg" title="Enlarge picture"> / <img src="http://katalog.we-online.de/media/thumbs2/eisos/thb_FeCBA_pf2.jpg" width="320"></a><p> / Details see: <a href="http://katalog.we-online.de/en/pbs/WE-CBA/">http://katalog.we-online.de/en/pbs/WE-CBA/ / </a><p>Created: 2015-02-02 / <br>2015 (C) Wurth Elektronik
footprint WE-CBA_0805(W=3)
pins: 1, 2

## WE-CBA_1206(HC)
designator L?, comment <b> WE-CBA SMD EMI Suppression Ferrite Bead / <br></B> / <br><b>Characteristics / </b><br>Reliable Ni-Sn electrodes / <br>High rated current up to 5A / <br>Recommended soldering: Reflow / <br>Operating temperature: -55°C to +125°C / <br> / <br><b>Applications<br> / <br> / </b>* Perfect as data line filter and for uncoupling of distribution voltage / <BR> / <br>*This special SMD chip bead ferrites can be put directly on the printed circuit board. They offer excellent anti-EMI properties and low DC-resistance. Placed very close next to the interference source even with smallest size 0402,maximal impedance at 1000 Ω can be reached.<BR> / <br>*High Speed:<BR>"High Speed " SMD ferrites WE-CBF have lower impedance in the lower frequency ranges thus they have only a low attenuation for fast signals. Application e.g. USB 2.0, IEEE 1394,LVDS <BR> / <br>*Wide Band:<BR> "Wide Band" SMD ferrites WE-CBF already show high impedance in low frequency range. Therefore they are wide band through the whole spectrum. Application e.g. control signats, RS232, RS422, DC/DC converter <BR> / <br>*High Current:<BR>"High Current " SMD ferrites WE-CBF are designed for high current (over 1 A). The rated current refers to 40K self-heating. High current SMD ferrites are available in all there types (High Speed, Wide Band and High Frequency). Application e.g. power supply, DC/DC converter<BR> / <br>*Advice:<BR>Pay attention for the use of SMD-Ferrites for high current>1A and ambient temperature over +85°C that the rated current has to be reduced when temperature is above +85°C (Derating).<BR> / <br>*At+100°C environment temperature the maximal rated current has to add up to only 60% of the data sheet value ,without an overload of the component.<BR> / <br> / <b>Variant abbreviation</b><br> / WB means WIDE BAND<br> / HS means HIGH SPEED<br> / HC means HIGH CURRENT<br> / <br><a href="http://katalog.we-online.de/media/images/eisos/FeCBA_pf2.jpg" title="Enlarge picture"> / <img src="http://katalog.we-online.de/media/thumbs2/eisos/thb_FeCBA_pf2.jpg" width="320"></a><p> / Details see: <a href="http://katalog.we-online.de/en/pbs/WE-CBA/">http://katalog.we-online.de/en/pbs/WE-CBA/ / </a><p>Created: 2015-02-02 / <br>2015 (C) Wurth Elektronik
footprint WE-CBA_1206(W=5.2)
pins: 1, 2

## WE-CBA_1206(WB/HS)
designator L?, comment <b> WE-CBA SMD EMI Suppression Ferrite Bead / <br></B> / <br><b>Characteristics / </b><br>Reliable Ni-Sn electrodes / <br>High rated current up to 5A / <br>Recommended soldering: Reflow / <br>Operating temperature: -55°C to +125°C / <br> / <br><b>Applications<br> / <br> / </b>* Perfect as data line filter and for uncoupling of distribution voltage / <BR> / <br>*This special SMD chip bead ferrites can be put directly on the printed circuit board. They offer excellent anti-EMI properties and low DC-resistance. Placed very close next to the interference source even with smallest size 0402,maximal impedance at 1000 Ω can be reached.<BR> / <br>*High Speed:<BR>"High Speed " SMD ferrites WE-CBF have lower impedance in the lower frequency ranges thus they have only a low attenuation for fast signals. Application e.g. USB 2.0, IEEE 1394,LVDS <BR> / <br>*Wide Band:<BR> "Wide Band" SMD ferrites WE-CBF already show high impedance in low frequency range. Therefore they are wide band through the whole spectrum. Application e.g. control signats, RS232, RS422, DC/DC converter <BR> / <br>*High Current:<BR>"High Current " SMD ferrites WE-CBF are designed for high current (over 1 A). The rated current refers to 40K self-heating. High current SMD ferrites are available in all there types (High Speed, Wide Band and High Frequency). Application e.g. power supply, DC/DC converter<BR> / <br>*Advice:<BR>Pay attention for the use of SMD-Ferrites for high current>1A and ambient temperature over +85°C that the rated current has to be reduced when temperature is above +85°C (Derating).<BR> / <br>*At+100°C environment temperature the maximal rated current has to add up to only 60% of the data sheet value ,without an overload of the component.<BR> / <br> / <b>Variant abbreviation</b><br> / WB means WIDE BAND<br> / HS means HIGH SPEED<br> / HC means HIGH CURRENT<br> / <br><a href="http://katalog.we-online.de/media/images/eisos/FeCBA_pf2.jpg" title="Enlarge picture"> / <img src="http://katalog.we-online.de/media/thumbs2/eisos/thb_FeCBA_pf2.jpg" width="320"></a><p> / Details see: <a href="http://katalog.we-online.de/en/pbs/WE-CBA/">http://katalog.we-online.de/en/pbs/WE-CBA/ / </a><p>Created: 2015-02-02 / <br>2015 (C) Wurth Elektronik
footprint WE-CBA_1206(W=4.2)
pins: 1, 2

## WE-CBA_1806(HC)
designator L?, comment <b> WE-CBA SMD EMI Suppression Ferrite Bead / <br></B> / <br><b>Characteristics / </b><br>Reliable Ni-Sn electrodes / <br>High rated current up to 5A / <br>Recommended soldering: Reflow / <br>Operating temperature: -55°C to +125°C / <br> / <br><b>Applications<br> / <br> / </b>* Perfect as data line filter and for uncoupling of distribution voltage / <BR> / <br>*This special SMD chip bead ferrites can be put directly on the printed circuit board. They offer excellent anti-EMI properties and low DC-resistance. Placed very close next to the interference source even with smallest size 0402,maximal impedance at 1000 Ω can be reached.<BR> / <br>*High Speed:<BR>"High Speed " SMD ferrites WE-CBF have lower impedance in the lower frequency ranges thus they have only a low attenuation for fast signals. Application e.g. USB 2.0, IEEE 1394,LVDS <BR> / <br>*Wide Band:<BR> "Wide Band" SMD ferrites WE-CBF already show high impedance in low frequency range. Therefore they are wide band through the whole spectrum. Application e.g. control signats, RS232, RS422, DC/DC converter <BR> / <br>*High Current:<BR>"High Current " SMD ferrites WE-CBF are designed for high current (over 1 A). The rated current refers to 40K self-heating. High current SMD ferrites are available in all there types (High Speed, Wide Band and High Frequency). Application e.g. power supply, DC/DC converter<BR> / <br>*Advice:<BR>Pay attention for the use of SMD-Ferrites for high current>1A and ambient temperature over +85°C that the rated current has to be reduced when temperature is above +85°C (Derating).<BR> / <br>*At+100°C environment temperature the maximal rated current has to add up to only 60% of the data sheet value ,without an overload of the component.<BR> / <br> / <b>Variant abbreviation</b><br> / WB means WIDE BAND<br> / HS means HIGH SPEED<br> / HC means HIGH CURRENT<br> / <br><a href="http://katalog.we-online.de/media/images/eisos/FeCBA_pf2.jpg" title="Enlarge picture"> / <img src="http://katalog.we-online.de/media/thumbs2/eisos/thb_FeCBA_pf2.jpg" width="320"></a><p> / Details see: <a href="http://katalog.we-online.de/en/pbs/WE-CBA/">http://katalog.we-online.de/en/pbs/WE-CBA/ / </a><p>Created: 2015-02-02 / <br>2015 (C) Wurth Elektronik
footprint WE-CBA_1806(W=6.5)
pins: 1, 2

## WE-CBA_1806(WB/HS)
designator L?, comment <b> WE-CBA SMD EMI Suppression Ferrite Bead / <br></B> / <br><b>Characteristics / </b><br>Reliable Ni-Sn electrodes / <br>High rated current up to 5A / <br>Recommended soldering: Reflow / <br>Operating temperature: -55°C to +125°C / <br> / <br><b>Applications<br> / <br> / </b>* Perfect as data line filter and for uncoupling of distribution voltage / <BR> / <br>*This special SMD chip bead ferrites can be put directly on the printed circuit board. They offer excellent anti-EMI properties and low DC-resistance. Placed very close next to the interference source even with smallest size 0402,maximal impedance at 1000 Ω can be reached.<BR> / <br>*High Speed:<BR>"High Speed " SMD ferrites WE-CBF have lower impedance in the lower frequency ranges thus they have only a low attenuation for fast signals. Application e.g. USB 2.0, IEEE 1394,LVDS <BR> / <br>*Wide Band:<BR> "Wide Band" SMD ferrites WE-CBF already show high impedance in low frequency range. Therefore they are wide band through the whole spectrum. Application e.g. control signats, RS232, RS422, DC/DC converter <BR> / <br>*High Current:<BR>"High Current " SMD ferrites WE-CBF are designed for high current (over 1 A). The rated current refers to 40K self-heating. High current SMD ferrites are available in all there types (High Speed, Wide Band and High Frequency). Application e.g. power supply, DC/DC converter<BR> / <br>*Advice:<BR>Pay attention for the use of SMD-Ferrites for high current>1A and ambient temperature over +85°C that the rated current has to be reduced when temperature is above +85°C (Derating).<BR> / <br>*At+100°C environment temperature the maximal rated current has to add up to only 60% of the data sheet value ,without an overload of the component.<BR> / <br> / <b>Variant abbreviation</b><br> / WB means WIDE BAND<br> / HS means HIGH SPEED<br> / HC means HIGH CURRENT<br> / <br><a href="http://katalog.we-online.de/media/images/eisos/FeCBA_pf2.jpg" title="Enlarge picture"> / <img src="http://katalog.we-online.de/media/thumbs2/eisos/thb_FeCBA_pf2.jpg" width="320"></a><p> / Details see: <a href="http://katalog.we-online.de/en/pbs/WE-CBA/">http://katalog.we-online.de/en/pbs/WE-CBA/ / </a><p>Created: 2015-02-02 / <br>2015 (C) Wurth Elektronik
footprint WE-CBA_1806(W=5.5)
pins: 1, 2

## WE-CBF_0402(HC)
designator L?, comment <b> WE-CBF SMD EMI Suppression Ferrite Bead / <br> / <br> Characteristics / <br> / <br></b> Reliable Ni-Sn electrodes / <br> / <br> High rated current up to 6 A / <br> / <br> Operating temperature: –55 ºC to +125 ºC / <br> / <br><b> Applications / <br> / <br></b> Perfect as data lined filter and for uncoupling of distribution voltage / <br> / <br><b>Variant abbreviation</b><br> / WB means WIDE BAND<br> / HS means HIGH SPEED<br> / HC means HIGH CURRENT<br> / <br><a href="http://katalog.we-online.de/media/images/eisos/FeCBF_pf2.jpg" title="Enlarge picture"> / <img src="http://katalog.we-online.de/media/thumbs2/eisos/thb_FeCBF_pf2.jpg" width="320"></a><p> / Details see: <a href="http://katalog.we-online.de/en/pbs/WE-CBF">http://katalog.we-online.de/en/pbs/WE-CBF</a><p> / Updated on 2014-06-19<br> / 2014 (C) Wurth Elektronik
footprint WE-CBF_0402(W=2.2)
pins: 1, 2

## WE-CBF_0402(WB/HS)
designator L?, comment <b> WE-CBF SMD EMI Suppression Ferrite Bead / <br> / <br> Characteristics / <br> / <br></b> Reliable Ni-Sn electrodes / <br> / <br> High rated current up to 6 A / <br> / <br> Operating temperature: –55 ºC to +125 ºC / <br> / <br><b> Applications / <br> / <br></b> Perfect as data lined filter and for uncoupling of distribution voltage / <br> / <br><b>Variant abbreviation</b><br> / WB means WIDE BAND<br> / HS means HIGH SPEED<br> / HC means HIGH CURRENT<br> / <br><a href="http://katalog.we-online.de/media/images/eisos/FeCBF_pf2.jpg" title="Enlarge picture"> / <img src="http://katalog.we-online.de/media/thumbs2/eisos/thb_FeCBF_pf2.jpg" width="320"></a><p> / Details see: <a href="http://katalog.we-online.de/en/pbs/WE-CBF">http://katalog.we-online.de/en/pbs/WE-CBF</a><p> / Updated on 2014-06-19<br> / 2014 (C) Wurth Elektronik
footprint WE-CBF_0402(W=1.5)
pins: 1, 2

## WE-CBF_0603(HC)
designator L?, comment <b> WE-CBF SMD EMI Suppression Ferrite Bead / <br> / <br> Characteristics / <br> / <br></b> Reliable Ni-Sn electrodes / <br> / <br> High rated current up to 6 A / <br> / <br> Operating temperature: –55 ºC to +125 ºC / <br> / <br><b> Applications / <br> / <br></b> Perfect as data lined filter and for uncoupling of distribution voltage / <br> / <br><b>Variant abbreviation</b><br> / WB means WIDE BAND<br> / HS means HIGH SPEED<br> / HC means HIGH CURRENT<br> / <br><a href="http://katalog.we-online.de/media/images/eisos/FeCBF_pf2.jpg" title="Enlarge picture"> / <img src="http://katalog.we-online.de/media/thumbs2/eisos/thb_FeCBF_pf2.jpg" width="320"></a><p> / Details see: <a href="http://katalog.we-online.de/en/pbs/WE-CBF">http://katalog.we-online.de/en/pbs/WE-CBF</a><p> / Updated on 2014-06-19<br> / 2014 (C) Wurth Elektronik
footprint WE-CBF_0603(W=2.6)
pins: 1, 2

## WE-CBF_0603(WB/HS)
designator L?, comment <b> WE-CBF SMD EMI Suppression Ferrite Bead / <br> / <br> Characteristics / <br> / <br></b> Reliable Ni-Sn electrodes / <br> / <br> High rated current up to 6 A / <br> / <br> Operating temperature: –55 ºC to +125 ºC / <br> / <br><b> Applications / <br> / <br></b> Perfect as data lined filter and for uncoupling of distribution voltage / <br> / <br><b>Variant abbreviation</b><br> / WB means WIDE BAND<br> / HS means HIGH SPEED<br> / HC means HIGH CURRENT<br> / <br><a href="http://katalog.we-online.de/media/images/eisos/FeCBF_pf2.jpg" title="Enlarge picture"> / <img src="http://katalog.we-online.de/media/thumbs2/eisos/thb_FeCBF_pf2.jpg" width="320"></a><p> / Details see: <a href="http://katalog.we-online.de/en/pbs/WE-CBF">http://katalog.we-online.de/en/pbs/WE-CBF</a><p> / Updated on 2014-06-19<br> / 2014 (C) Wurth Elektronik
footprint WE-CBF_0603(W=2.2)
pins: 1, 2

## WE-CBF_0805(HC)
designator L?, comment <b> WE-CBF SMD EMI Suppression Ferrite Bead / <br> / <br> Characteristics / <br> / <br></b> Reliable Ni-Sn electrodes / <br> / <br> High rated current up to 6 A / <br> / <br> Operating temperature: –55 ºC to +125 ºC / <br> / <br><b> Applications / <br> / <br></b> Perfect as data lined filter and for uncoupling of distribution voltage / <br> / <br><b>Variant abbreviation</b><br> / WB means WIDE BAND<br> / HS means HIGH SPEED<br> / HC means HIGH CURRENT<br> / <br><a href="http://katalog.we-online.de/media/images/eisos/FeCBF_pf2.jpg" title="Enlarge picture"> / <img src="http://katalog.we-online.de/media/thumbs2/eisos/thb_FeCBF_pf2.jpg" width="320"></a><p> / Details see: <a href="http://katalog.we-online.de/en/pbs/WE-CBF">http://katalog.we-online.de/en/pbs/WE-CBF</a><p> / Updated on 2014-06-19<br> / 2014 (C) Wurth Elektronik
footprint WE-CBF_0805(W=4.0)
pins: 1, 2

## WE-CBF_0805(WB/HS)
designator L?, comment <b> WE-CBF SMD EMI Suppression Ferrite Bead / <br> / <br> Characteristics / <br> / <br></b> Reliable Ni-Sn electrodes / <br> / <br> High rated current up to 6 A / <br> / <br> Operating temperature: –55 ºC to +125 ºC / <br> / <br><b> Applications / <br> / <br></b> Perfect as data lined filter and for uncoupling of distribution voltage / <br> / <br><b>Variant abbreviation</b><br> / WB means WIDE BAND<br> / HS means HIGH SPEED<br> / HC means HIGH CURRENT<br> / <br><a href="http://katalog.we-online.de/media/images/eisos/FeCBF_pf2.jpg" title="Enlarge picture"> / <img src="http://katalog.we-online.de/media/thumbs2/eisos/thb_FeCBF_pf2.jpg" width="320"></a><p> / Details see: <a href="http://katalog.we-online.de/en/pbs/WE-CBF">http://katalog.we-online.de/en/pbs/WE-CBF</a><p> / Updated on 2014-06-19<br> / 2014 (C) Wurth Elektronik
footprint WE-CBF_0805(W=3.0)
pins: 1, 2

## WE-CBF_1206(HC)
designator L?, comment <b> WE-CBF SMD EMI Suppression Ferrite Bead / <br> / <br> Characteristics / <br> / <br></b> Reliable Ni-Sn electrodes / <br> / <br> High rated current up to 6 A / <br> / <br> Operating temperature: –55 ºC to +125 ºC / <br> / <br><b> Applications / <br> / <br></b> Perfect as data lined filter and for uncoupling of distribution voltage / <br> / <br><b>Variant abbreviation</b><br> / WB means WIDE BAND<br> / HS means HIGH SPEED<br> / HC means HIGH CURRENT<br> / <br><a href="http://katalog.we-online.de/media/images/eisos/FeCBF_pf2.jpg" title="Enlarge picture"> / <img src="http://katalog.we-online.de/media/thumbs2/eisos/thb_FeCBF_pf2.jpg" width="320"></a><p> / Details see: <a href="http://katalog.we-online.de/en/pbs/WE-CBF">http://katalog.we-online.de/en/pbs/WE-CBF</a><p> / Updated on 2014-06-19<br> / 2014 (C) Wurth Elektronik
footprint WE-CBF_1206(W=5.2)
pins: 1, 2

## WE-CBF_1206(WB/HS)
designator L?, comment <b> WE-CBF SMD EMI Suppression Ferrite Bead / <br> / <br> Characteristics / <br> / <br></b> Reliable Ni-Sn electrodes / <br> / <br> High rated current up to 6 A / <br> / <br> Operating temperature: –55 ºC to +125 ºC / <br> / <br><b> Applications / <br> / <br></b> Perfect as data lined filter and for uncoupling of distribution voltage / <br> / <br><b>Variant abbreviation</b><br> / WB means WIDE BAND<br> / HS means HIGH SPEED<br> / HC means HIGH CURRENT<br> / <br><a href="http://katalog.we-online.de/media/images/eisos/FeCBF_pf2.jpg" title="Enlarge picture"> / <img src="http://katalog.we-online.de/media/thumbs2/eisos/thb_FeCBF_pf2.jpg" width="320"></a><p> / Details see: <a href="http://katalog.we-online.de/en/pbs/WE-CBF">http://katalog.we-online.de/en/pbs/WE-CBF</a><p> / Updated on 2014-06-19<br> / 2014 (C) Wurth Elektronik
footprint WE-CBF_1206(W=4.2)
pins: 1, 2

## WE-CBF_1806(HC)
designator L?, comment <b> WE-CBF SMD EMI Suppression Ferrite Bead / <br> / <br> Characteristics / <br> / <br></b> Reliable Ni-Sn electrodes / <br> / <br> High rated current up to 6 A / <br> / <br> Operating temperature: –55 ºC to +125 ºC / <br> / <br><b> Applications / <br> / <br></b> Perfect as data lined filter and for uncoupling of distribution voltage / <br> / <br><b>Variant abbreviation</b><br> / WB means WIDE BAND<br> / HS means HIGH SPEED<br> / HC means HIGH CURRENT<br> / <br><a href="http://katalog.we-online.de/media/images/eisos/FeCBF_pf2.jpg" title="Enlarge picture"> / <img src="http://katalog.we-online.de/media/thumbs2/eisos/thb_FeCBF_pf2.jpg" width="320"></a><p> / Details see: <a href="http://katalog.we-online.de/en/pbs/WE-CBF">http://katalog.we-online.de/en/pbs/WE-CBF</a><p> / Updated on 2014-06-19<br> / 2014 (C) Wurth Elektronik
footprint WE-CBF_1806(W=6.5)
pins: 1, 2

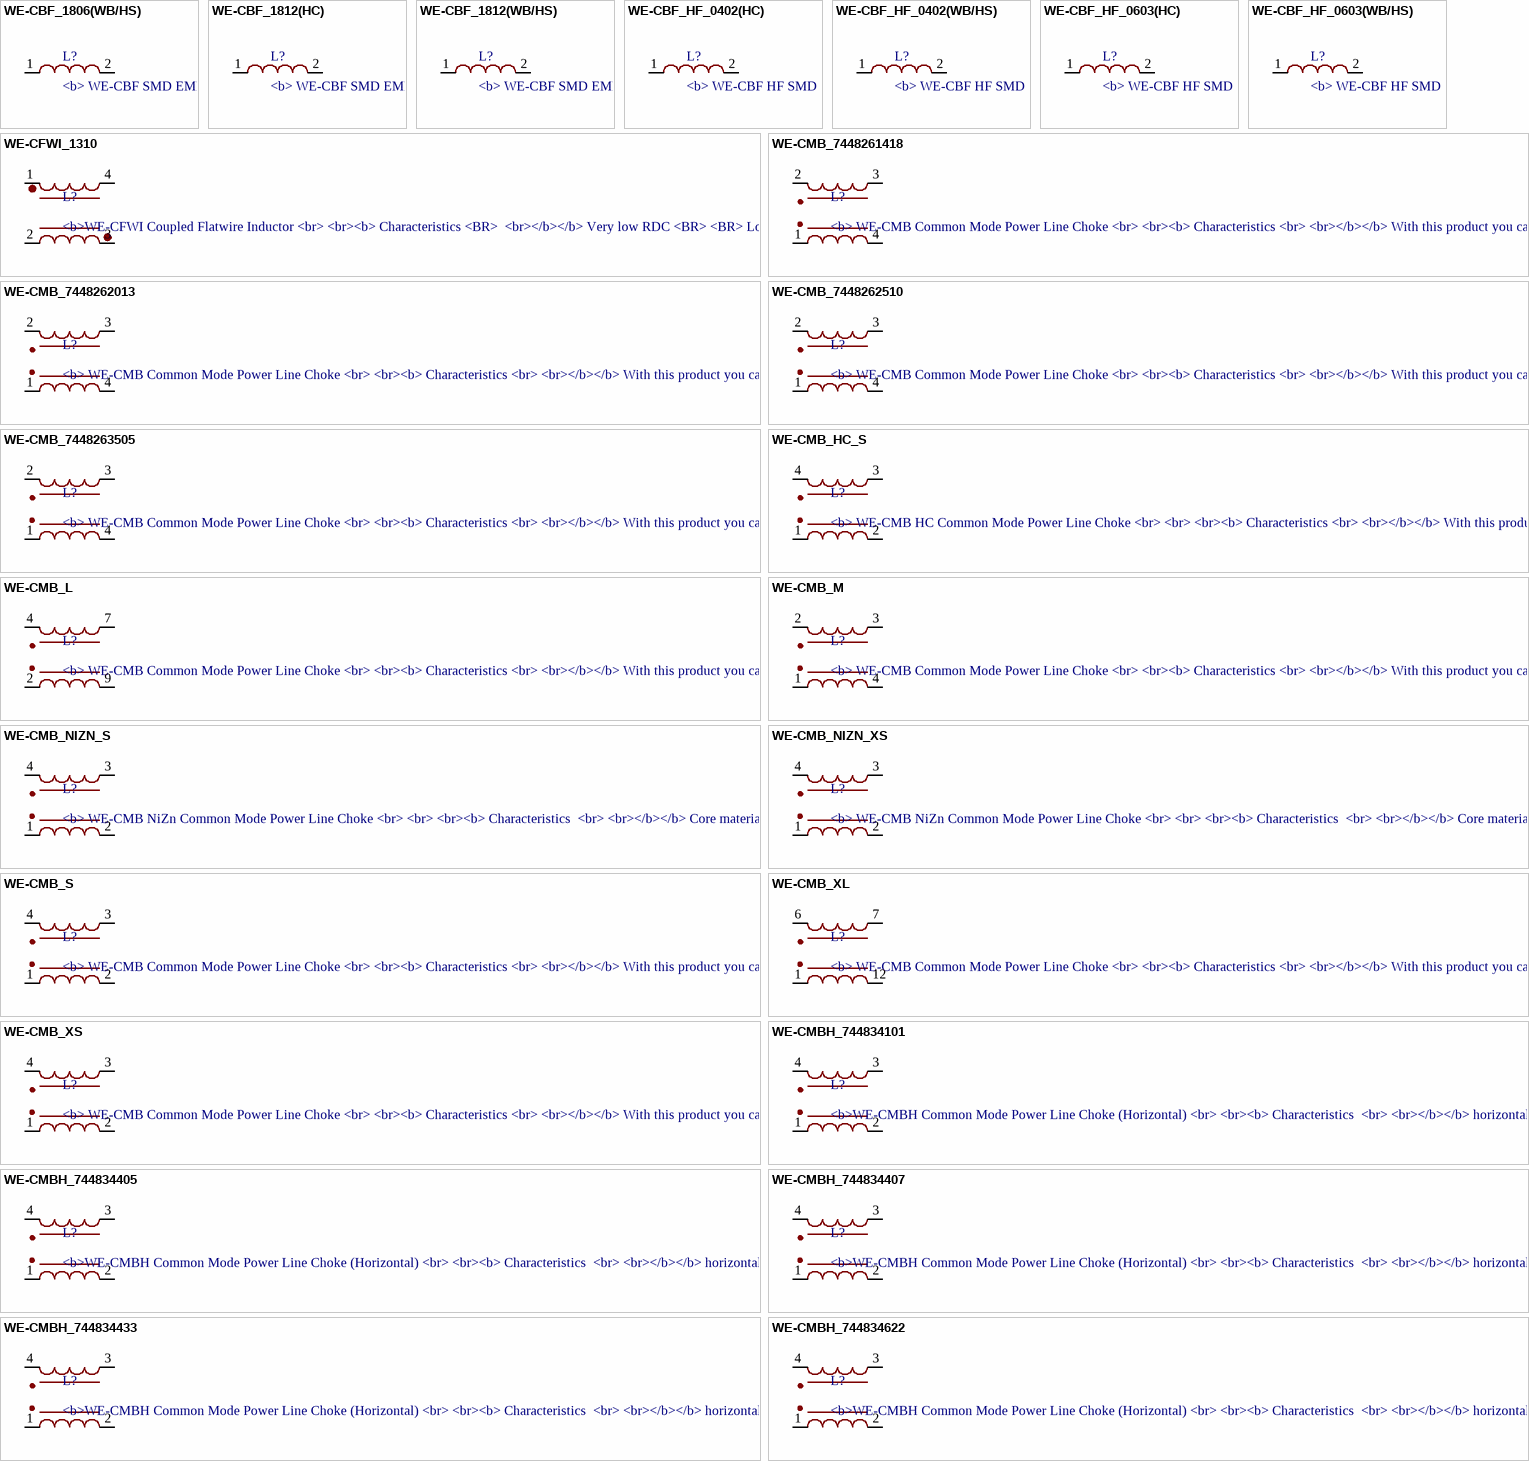
[diagram p1: symbols WE-CBF_1806(WB/HS) to WE-CMBH_744834622]